# EAGLE library part MCP23008 (library larger_pad_header)
MCP23008 Inexpensive i2c i/o expander - 8 general purpose i/o pins with optional pullups
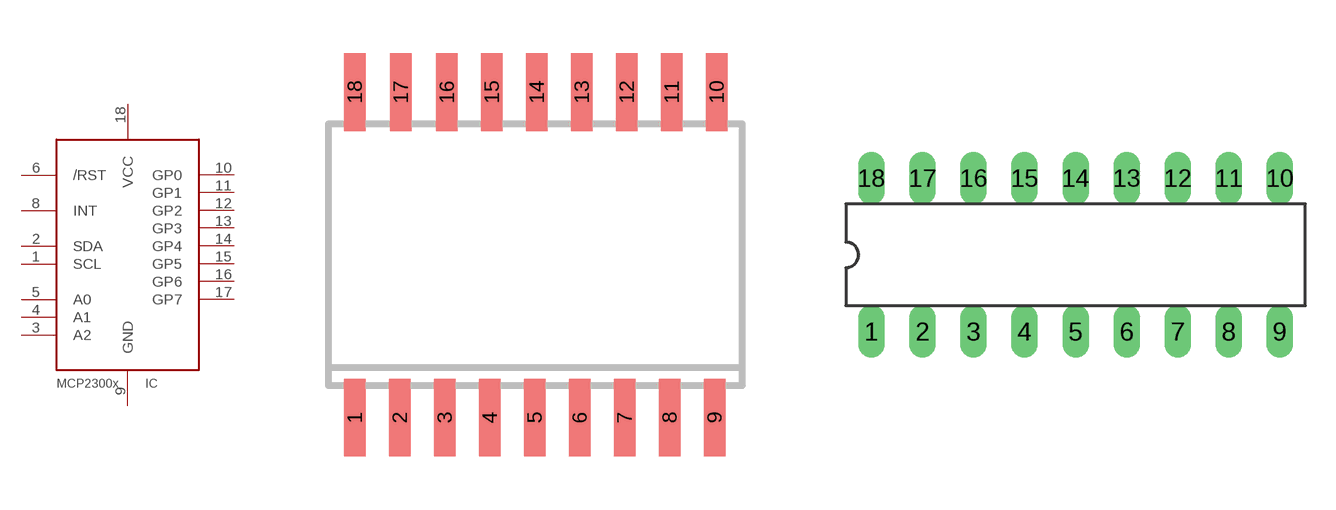
[diagram p52: symbol with the pads of SO18W; footprints SO18W, DIL18]

Designator prefix IC

## MCP23008/SO  [SO18W]
1  SCL
2  SDA
3  A2  in
4  A1  in
5  A0  in
6  /RST  in
8  INT  out
9  GND  pwr
10  GP0
11  GP1
12  GP2
13  GP3
14  GP4
15  GP5
16  GP6
17  GP7
18  VCC  pwr

## MCP23008/P  [DIL18]
Pads as for SO18W

## Footprint SO18W (pad centres in mm)
smd 0.6 x 2.2: 1 -4.445,-4.6; 2 -3.175,-4.6; 3 -1.905,-4.6; 4 -0.635,-4.6; 5 0.635,-4.6; 6 1.905,-4.6; 7 3.175,-4.6; 8 4.445,-4.6; 9 5.715,-4.6; 10 5.775,4.6; 11 4.505,4.6; 12 3.235,4.6; 13 1.965,4.6; 14 0.695,4.6; 15 -0.575,4.6; 16 -1.845,4.6; 17 -3.145,4.6; 18 -4.445,4.6

## Footprint DIL18 (pad centres in mm)
Dual In Line package type P
drill 0.813 long: 1 -10.16,-3.81; 2 -7.62,-3.81; 3 -5.08,-3.81; 4 -2.54,-3.81; 5 0,-3.81; 6 2.54,-3.81; 7 5.08,-3.81; 8 7.62,-3.81; 9 10.16,-3.81; 10 10.16,3.81; 11 7.62,3.81; 12 5.08,3.81; 13 2.54,3.81; 14 0,3.81; 15 -2.54,3.81; 16 -5.08,3.81; 17 -7.62,3.81; 18 -10.16,3.81